# EAGLE library part RELAY (library pololu)
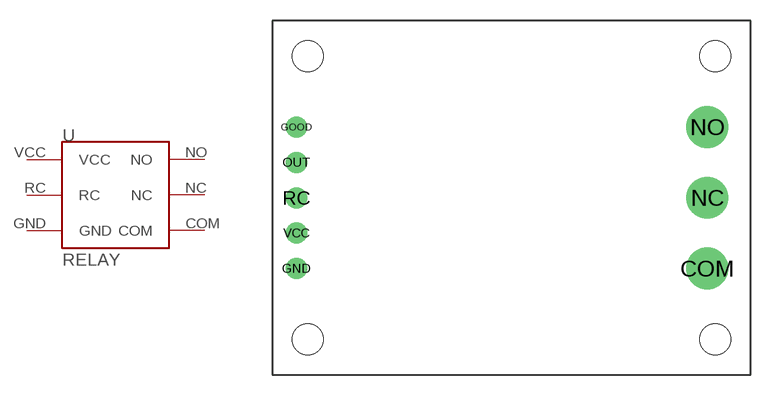
[diagram p1: symbol with the pads of RELAY; footprint RELAY]

Designator prefix -

## RELAY  [RELAY]
COM  COM
GND  GND
NC  NC
NO  NO
RC  RC
VCC  VCC

## Footprint RELAY (pad centres in mm)
drill 2: COM 14.046,-5.08; NC 14.046,0; NO 14.046,5.08
drill 1: GND -15.418,-5.08; GOOD -15.418,5.08; OUT -15.418,2.54; RC -15.418,0; VCC -15.418,-2.54
hole 2.2 at 14.605,-10.16
hole 2.2 at 14.605,10.16
hole 2.2 at -14.605,10.16
hole 2.2 at -14.605,-10.16
hole 2.2 at 14.605,-10.16